# EAGLE library part 150505M173300 (library WL-SFTW)
WL-SFTW SMT Full-color TOP LED Waterclear Characteristics Low energy consumption High reliability Low current requirement Fast switching No UV/IR radiation High brightness RGB individual control Compact package outline LED with Black surface Applications Flash light Switch indicators Equipment indicators Accent and decorative lighting Electronic signage Video displays Backlight for LCDs, PDAs and TVs Oven, microwave Street lighting Ideal for lateral coupling in light guides <https://www.we-online.com/components/media/o14903v209%20model-WL-SFTW.jpg> Details see: www.we-online.com/en/components/products/WL-SFTW <www.we-online.com/catalog/WL-SFTW/?utm_source=eagle_model&utm_medium=description_link&utm_campaign=eisos_eagle> Updated by Ella 2025-03-14 2025(C) Würth Elektronik
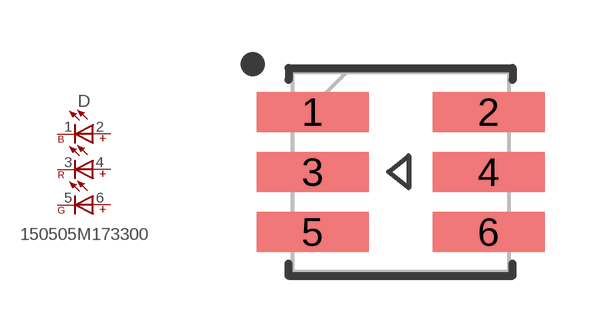
[diagram p2: symbol with the pads of 150505M173300; footprint 150505M173300]

Designator prefix D

## 150505M173300 (CHIP-TECHNOLOGY: AlInGaP + InGaN; DATASHEET-URL: https://www.we-online.com/redexpert/spec/150505M173300?ae; DOMINANT-WAVELENGTH: 625nm@Red & 520nm@Green & 470nm@Blue; EMITTING-COLOR: Red & Green & Blue; FORWARD-VOLTAGE: 2V@Red & 3.2V@Green & 3.2V@Blue; HEIGHT: 1.5mm; LENGTH: 5.4mm; LUMINOUS-INTENSITY: 800nm@Red & 1300nm@Green & 350nm@Blue; MOUNT: SMT; PART-NUMBER: 150505M173300; PEAK-WAVELENGTH: 635nm@Red & 515nm@Green & 465nm@Blue; SIZE: 5050; VALUE: 150505M173300; VIEWING-ANGLE: 120°; WIDTH: 5mm)  [150505M173300]
1  B-  pas
2  B+  pas
3  R-  pas
4  R+  pas
5  G-  pas
6  G+  pas

## Footprint 150505M173300 (pad centres in mm)
WL-SFTW SMT Full-color TOP LED Waterclear, Size:5050, SMT, 6pins 5.4x5x1.5mm(LXWXH)
smd 2.8 x 1: 1 -2.2,1.5; 2 2.2,1.5; 3 -2.2,0; 4 2.2,0; 5 -2.2,-1.5; 6 2.2,-1.5